# Altium footprint library LYDZ.PcbLib: 231 footprints (part 5 of 15)
Each footprint in its own frame and in the unit in brackets; x right, y up, seen from the top. Pads: shape width x height; smd on the part's side, far side on the other; paste and mask are expansions set on the pad; w line width, h text height; cw(c..) or ccw(c..) is an arc to the next point about the centre after c.
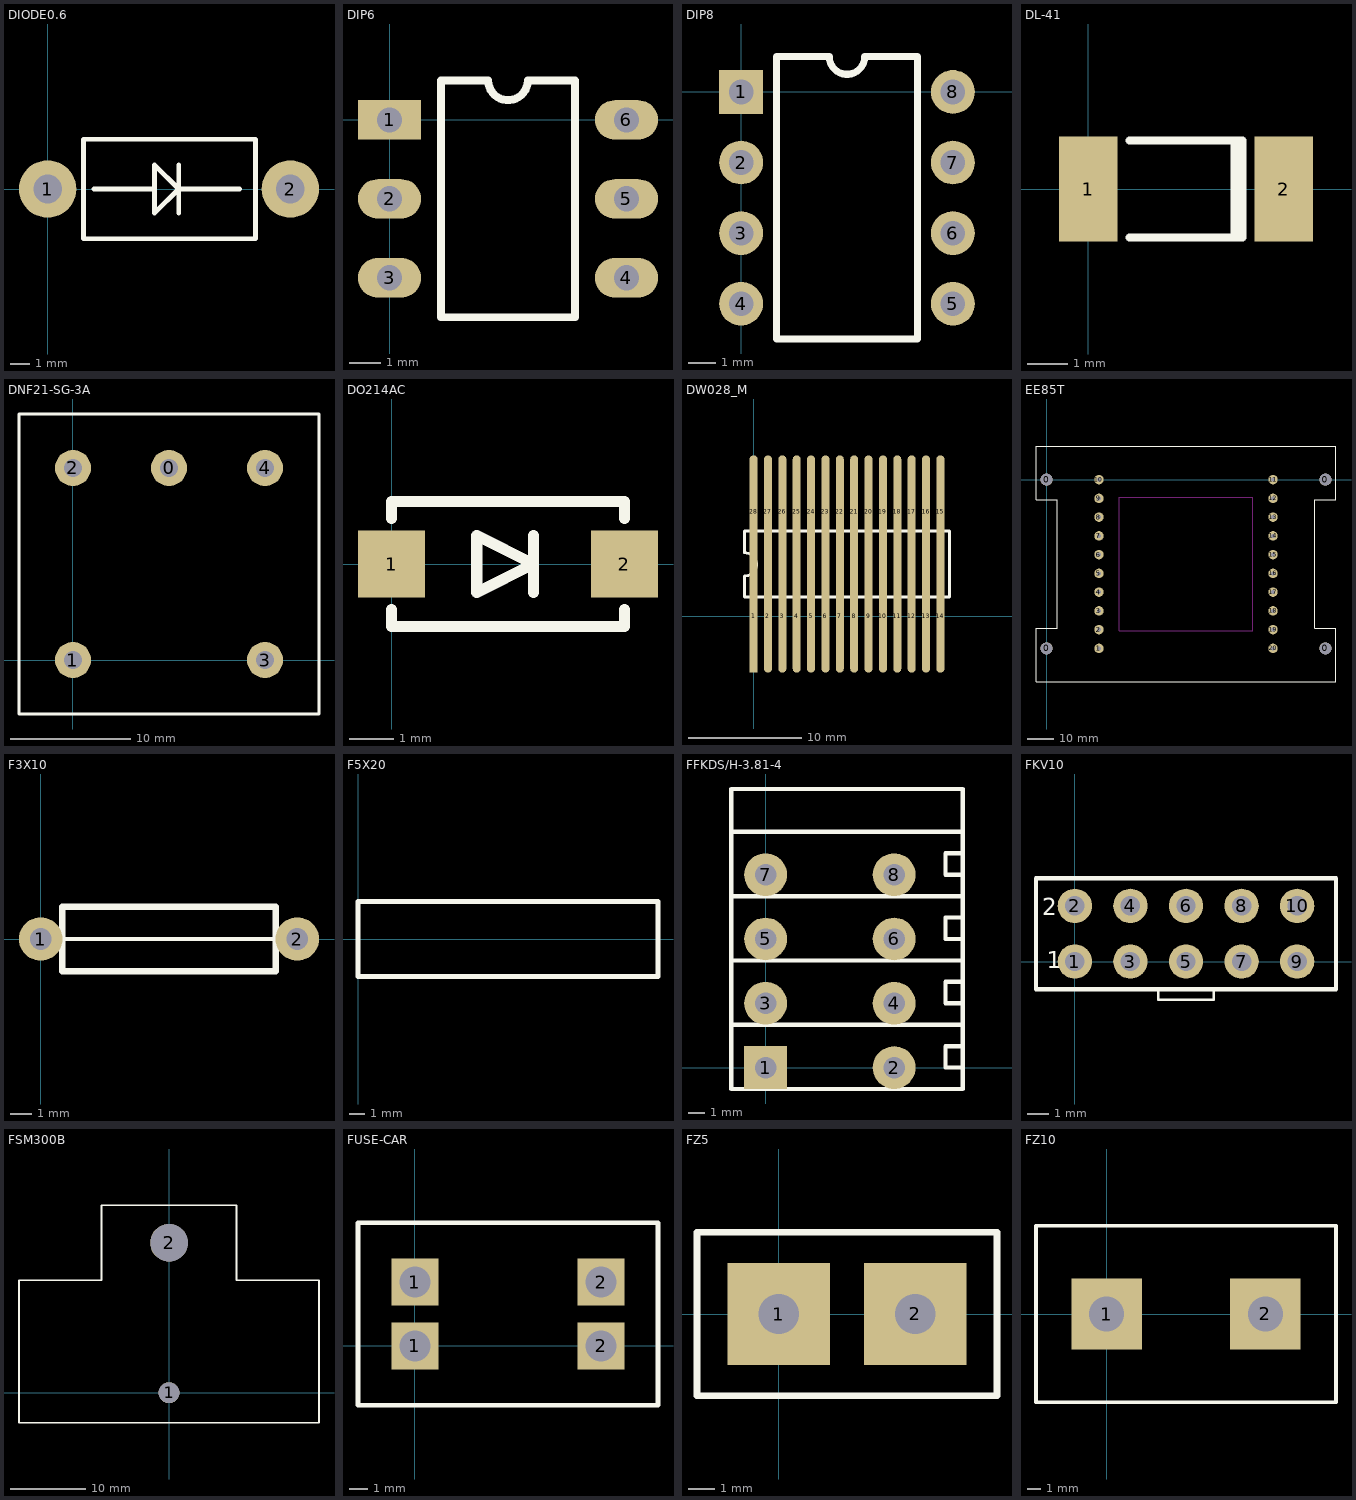
[diagram p4: the footprints below, top view; thin cyan lines are the x and y axes]

## DIODE0.6 [mm]
pads (2):
  round 3 hole 1.5: 1(0,0) 2(12.7,0)
Top Overlay:
  lines w0.254: 2.413,0 5.588,0 ; 6.858,-1.27 6.858,1.27 ; 10.033,0 6.858,0 ; 6.858,0 5.588,1.27 5.588,-1.27 6.858,0 ; 1.873,-2.6 1.873,2.6 10.873,2.6 10.873,-2.6 1.873,-2.6

## DIP6 [mil]
pads (6):
  rect 80x50 hole 32: 1(0,0)
  oval 80x50 hole 32: 2(0,-100) 3(0,-200) 4(300,-200) 5(300,-100) 6(300,0)
Top Overlay:
  lines w10: 65,-250 235,-250 235,50 175,50 cw(c150,50) 125,50 65,50 65,-250

## DIP8 [mil]
pads (8):
  rect 62x62 hole 35: 1(0,0)
  round 62 hole 35: 2(0,-100) 3(0,-200) 4(0,-300) 5(300,-300) 6(300,-200) 7(300,-100) 8(300,0)
Top Overlay:
  lines w10: 50,-350 50,50 125,50 ccw(c150,50) 175,50 250,50 250,-350 50,-350

## DL-41 [mm]
pads (2):
  rect 1.45x2.6 smd: 1(0,0) 2(4.85,0)
Top Overlay:
  lines w0.2: 1.025,-1.2 3.825,-1.2 3.825,1.2 1.025,1.2 ; 3.635,-1.2 3.635,1.2

## DNF21-SG-3A [mm]
pads (5):
  round 3 hole 1.5: 0(8,16) 1(0,0) 2(0,16) 3(16,0) 4(16,16)
Top Overlay:
  lines w0.254: -4.5,-4.5 -4.5,8 -4.5,20.5 2,20.5 20.5,20.5 20.5,-4.5 16,-4.5 2.5,-4.5 -4.5,-4.5

## DO214AC [mm]
pads (2):
  rect 1.5x1.5 smd: 1(0,0) 2(5.207,0)
Top Overlay:
  lines w0.254: 0,-1.016 0,-1.397 5.207,-1.397 5.207,-1.016 ; 0,1.016 0,1.397 5.207,1.397 5.207,1.016 ; 3.175,-0.635 3.175,0.635 ; 1.905,-0.635 3.175,0 1.905,0.635 1.905,-0.635

## DW028_M [mm]
pads (28):
  rect 0.7x10 smd: 1(0,0)
  oval 0.7x10 smd: 2(1.27,0) 3(2.54,0) 4(3.81,0) 5(5.08,0) 6(6.35,0) 7(7.62,0) 8(8.89,0) 9(10.16,0) 10(11.43,0) 11(12.7,0) 12(13.97,0) 13(15.24,0) 14(16.51,0) 15(16.51,9.2) 16(15.24,9.2) 17(13.97,9.2) 18(12.7,9.2) 19(11.43,9.2) 20(10.16,9.2) 21(8.89,9.2) 22(7.62,9.2) 23(6.35,9.2) 24(5.08,9.2) 25(3.81,9.2) 26(2.54,9.2) 27(1.27,9.2) 28(0,9.2)
Top Overlay:
  lines w0.254: -0.797,3.551 ccw(c-0.762,4.572) -0.795,5.593 -0.795,7.5 17.305,7.5 17.305,1.7 -0.795,1.7 -0.795,3.551

## EE85T [mm]
pads (24):
  round 4.5 hole 4.5: 0(0,-63) 0(0,0) 0(104.14,-63) 0(104.14,0)
  round 3.5 hole 1.5: 1(19.57,-63) 2(19.57,-56) 3(19.57,-49) 4(19.57,-42) 5(19.57,-35) 6(19.57,-28) 7(19.57,-21) 8(19.57,-14) 9(19.57,-7) 10(19.57,0) 11(84.57,0) 12(84.57,-7) 13(84.57,-14) 14(84.57,-21) 15(84.57,-28) 16(84.57,-35) 17(84.57,-42) 18(84.57,-49) 19(84.57,-56) 20(84.57,-63)
Top Overlay:
  lines w0.254: 4.07,-7.497 4.067,-7.5 ; 100.07,-55.503 100.073,-55.5 ; 100.076,-7.497 100.079,-7.5 ; 4.067,-7.5 4.067,-55.5 4.064,-55.503 4.061,-55.5 -3.93,-55.5 -3.93,-75.5 108.07,-75.5 108.07,-55.5 100.073,-55.5 ; 4.067,-7.5 -3.93,-7.5 -3.93,12.5 108.07,12.5 108.07,-7.5 100.079,-7.5 ; 100.073,-55.5 100.073,-7.506 100.079,-7.5
Keep-Out Layer:
  lines w0.254: 27.07,-56.5 77.07,-56.5 77.07,-6.5 27.07,-6.5 27.07,-56.5

## F3X10 [mil]
pads (2):
  round 80 hole 40: 1(0,0) 2(472.44,0)
Top Overlay:
  lines w8: 44,0 430,0
  lines w12: 39.37,-59.06 39.37,59.06 433.07,59.06 433.07,-59.06 39.37,-59.06

## F5X20 [mil]
Top Overlay:
  lines w12: 0,-98.43 0,98.43 787.4,98.43 787.4,-98.43 0,-98.43

## FFKDS/H-3.81-4 [mil]
pads (8):
  rect 100x100 hole 50: 1(0,0)
  round 100 hole 50: 2(300,0) 3(0,150) 4(300,150) 5(0,300) 6(300,300) 7(0,450) 8(300,450)
Top Overlay:
  lines w10: -80,100 460,100 ; -80,250 460,250 ; -80,400 460,400 ; 460,0 420,0 420,50 460,50 ; 460,150 420,150 420,200 460,200 ; 460,300 420,300 420,350 460,350 ; 460,450 420,450 420,500 460,500 ; -80,550 460,550 ; -80,550 -80,500 -80,-50 460,-50 460,500 ; -80,550 -80,650 460,650 460,550 ; 460,500 460,550

## FKV10 [mil]
height 62.99
pads (10):
  round 62 hole 35: 1(0,0) 2(0,100) 3(100,0) 4(100,100) 5(200,0) 6(200,100) 7(300,0) 8(300,100) 9(400,0) 10(400,100)
Top Overlay:
  lines w5: 150,-50 150,-69 250,-69 250,-49
  lines w8: -70,-50 470,-50 470,150 -70,150 -70,-50
  text "1" at -51,-12 h30
  text "2" at -59,83 h30

## FSM300B [mm]
pads (2):
  round 2.8 hole 2.8: 1(0,0)
  round 5 hole 5: 2(0,20)
Top Overlay:
  lines w0.254: -20,-4 20,-4 20,15 9,15 9,25 -9,25 -9,15 -20,15 -20,-4

## FUSE-CAR [mm]
pads (4):
  rect 2.5x2.5 hole 1.65: 1(0,0) 1(0,3.4) 2(9.92,0) 2(9.92,3.4)
Top Overlay:
  lines w0.254: -3.04,-3.165 12.96,-3.165 12.96,6.565 -3.04,6.565 -3.04,-3.165

## FZ5 [mm]
pads (2):
  rect 3.81x3.81 hole 1.5: 1(0,0) 2(5.08,0)
Top Overlay:
  lines w0.254: -3.048,-3.048 -3.048,3.048 8.128,3.048 8.128,-3.048 -3.048,-3.048

## FZ10 [mil]
height 219.69
pads (2):
  rect 200x200 hole 100: 1(0,0) 2(450,0)
Top Overlay:
  lines w10: -200,-250 650,-250 650,250 -200,250 -200,-250